# EAGLE library part TEENSY3.1_FRONT (library Teensy3.1_ralfsfix)
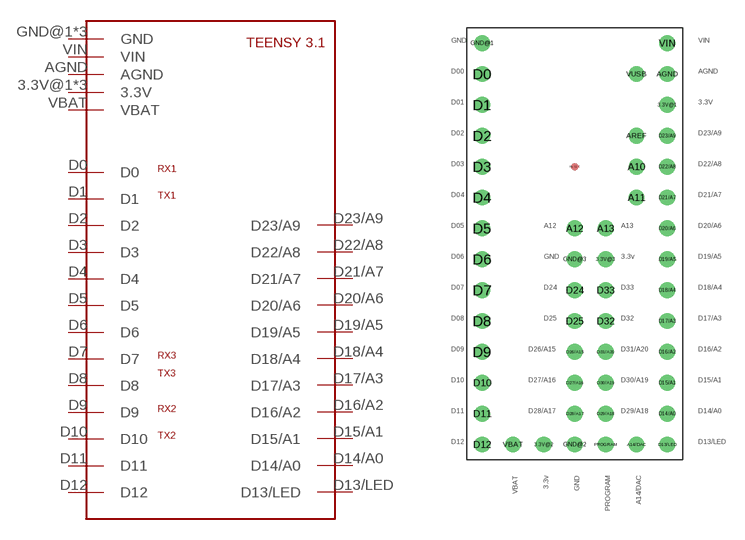
[diagram p1: symbol with the pads of TEENSY3.1_ALL_RALF; footprint TEENSY3.1_ALL_RALF]

Designator prefix -

## TEENSY3.1_FRONT  [TEENSY3.1_ALL_RALF]
3.3V@1  3.3V
3.3V@2  3.3V
3.3V@3  3.3V
AGND  AGND
D0  D0
D1  D1
D2  D2
D3  D3
D4  D4
D5  D5
D6  D6
D7  D7
D8  D8
D9  D9
D10  D10
D11  D11
D12  D12
D13/LED  D13/LED
D14/A0  D14/A0
D15/A1  D15/A1
D16/A2  D16/A2
D17/A3  D17/A3
D18/A4  D18/A4
D19/A5  D19/A5
D20/A6  D20/A6
D21/A7  D21/A7
D22/A8  D22/A8
D23/A9  D23/A9
GND@1  GND
GND@2  GND
GND@3  GND
VBAT  VBAT
VIN  VIN

## Footprint TEENSY3.1_ALL_RALF (pad centres in mm)
drill 0.8: 3.3V@1 2.54,5.08; 3.3V@2 -7.62,-22.86; 3.3V@3 -2.54,-7.62; A10 0,0; A11 0,-2.54; A12 -5.08,-5.08; A13 -2.54,-5.08; A14/DAC 0,-22.86; AGND 2.54,7.62; AREF 0,2.54; D0 -12.7,7.62; D1 -12.7,5.08; D2 -12.7,2.54; D3 -12.7,0; D4 -12.7,-2.54; D5 -12.7,-5.08; D6 -12.7,-7.62; D7 -12.7,-10.16; D8 -12.7,-12.7; D9 -12.7,-15.24; D10 -12.7,-17.78; D11 -12.7,-20.32; D12 -12.7,-22.86; D13/LED 2.54,-22.86; D14/A0 2.54,-20.32; D15/A1 2.54,-17.78; D16/A2 2.54,-15.24; D17/A3 2.54,-12.7; D18/A4 2.54,-10.16; D19/A5 2.54,-7.62; D20/A6 2.54,-5.08; D21/A7 2.54,-2.54; D22/A8 2.54,0; D23/A9 2.54,2.54; D24 -5.08,-10.16; D25 -5.08,-12.7; D26/A15 -5.08,-15.24; D27/A16 -5.08,-17.78; D28/A17 -5.08,-20.32; D29/A18 -2.54,-20.32; D30/A19 -2.54,-17.78; D31/A20 -2.54,-15.24; D32 -2.54,-12.7; D33 -2.54,-10.16; GND@1 -12.7,10.16; GND@2 -5.08,-22.86; GND@3 -5.08,-7.62; PROGRAM -2.54,-22.86; VBAT -10.16,-22.86; VIN 2.54,10.16; VUSB 0,7.62
smd 0.635 x 0.635: RESET -5.08,0